# EAGLE library part STRAWSON_EAGLE_LIB_S-8261 (library BeagleBone_Blue)
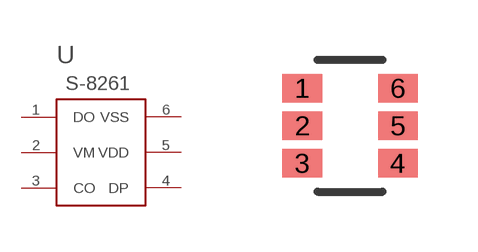
[diagram p20: symbol with the pads of STRAWSON_EAGLE_LIB_SOT-236; footprint STRAWSON_EAGLE_LIB_SOT-236]

Designator prefix -

## STRAWSON_EAGLE_LIB_S-8261  [STRAWSON_EAGLE_LIB_SOT-236]
1  DO
2  VM
3  CO
4  DP
5  VDD
6  VSS

## Footprint STRAWSON_EAGLE_LIB_SOT-236 (pad centres in mm)
smd 0.991 x 0.711: 1 -1.194,0.94; 2 -1.194,0; 3 -1.194,-0.94; 4 1.194,-0.94; 5 1.194,0; 6 1.194,0.94